# Altium schematic symbol library MICRON-MT29F2G08BABWG.schlib: 1 symbol
Pins are listed as number, name and electrical type; pins without a type are passive.

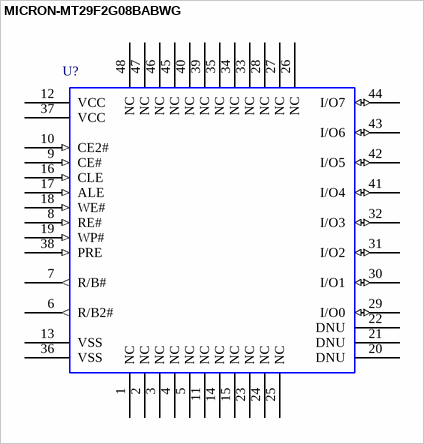
[diagram p0: symbol MICRON-MT29F2G08BABWG]

## MICRON-MT29F2G08BABWG
designator U?  (value not drawn)
2 4 and 8Gb x8/x16 Mux NAND Flash Memory; CircuitryPartsPN: MICRON-MT29F2G08BABWG; ManufacturerPN: MT29F2G08BABWG; Manufacturer: Micron Technology Inc; CategoryI: Integrated Circuits (ICs); SchematicRev: A; DesignedBy: Circuitry Parts; MfgURL: http://www.micron.com/; PackageName: TSOPI48; FootprintName: *; CategoryII: NAND FLASH MEMORY; Value: *; DesignedOn: 7/18/2005 3:01:35 PM
pins: 1 NC, 2 NC, 3 NC, 4 NC, 5 NC, 6 R/B2# (out), 7 R/B# (out), 8 RE# (in), 9 CE# (in), 10 CE2# (in), 11 NC, 12 VCC (power), 13 VSS (power), 14 NC, 15 NC, 16 CLE (in), 17 ALE (in), 18 WE# (in), 19 WP# (in), 20 DNU, 21 DNU, 22 DNU, 23 NC, 24 NC, 25 NC, 26 NC, 27 NC, 28 NC, 29 I/O0 (io), 30 I/O1 (io), 31 I/O2 (io), 32 I/O3 (io), 33 NC, 34 NC, 35 NC, 36 VSS (power), 37 VCC (power), 38 PRE (in), 39 NC, 40 NC, 41 I/O4 (io), 42 I/O5 (io), 43 I/O6 (io), 44 I/O7 (io), 45 NC, 46 NC, 47 NC, 48 NC